# Altium footprint library Connector_JST.PcbLib: 558 footprints (part 23 of 35)
Each footprint in its own frame and in the unit in brackets; x right, y up, seen from the top. Pads: shape width x height; smd on the part's side, far side on the other; paste and mask are expansions set on the pad; w line width, h text height; cw(c..) or ccw(c..) is an arc to the next point about the centre after c.
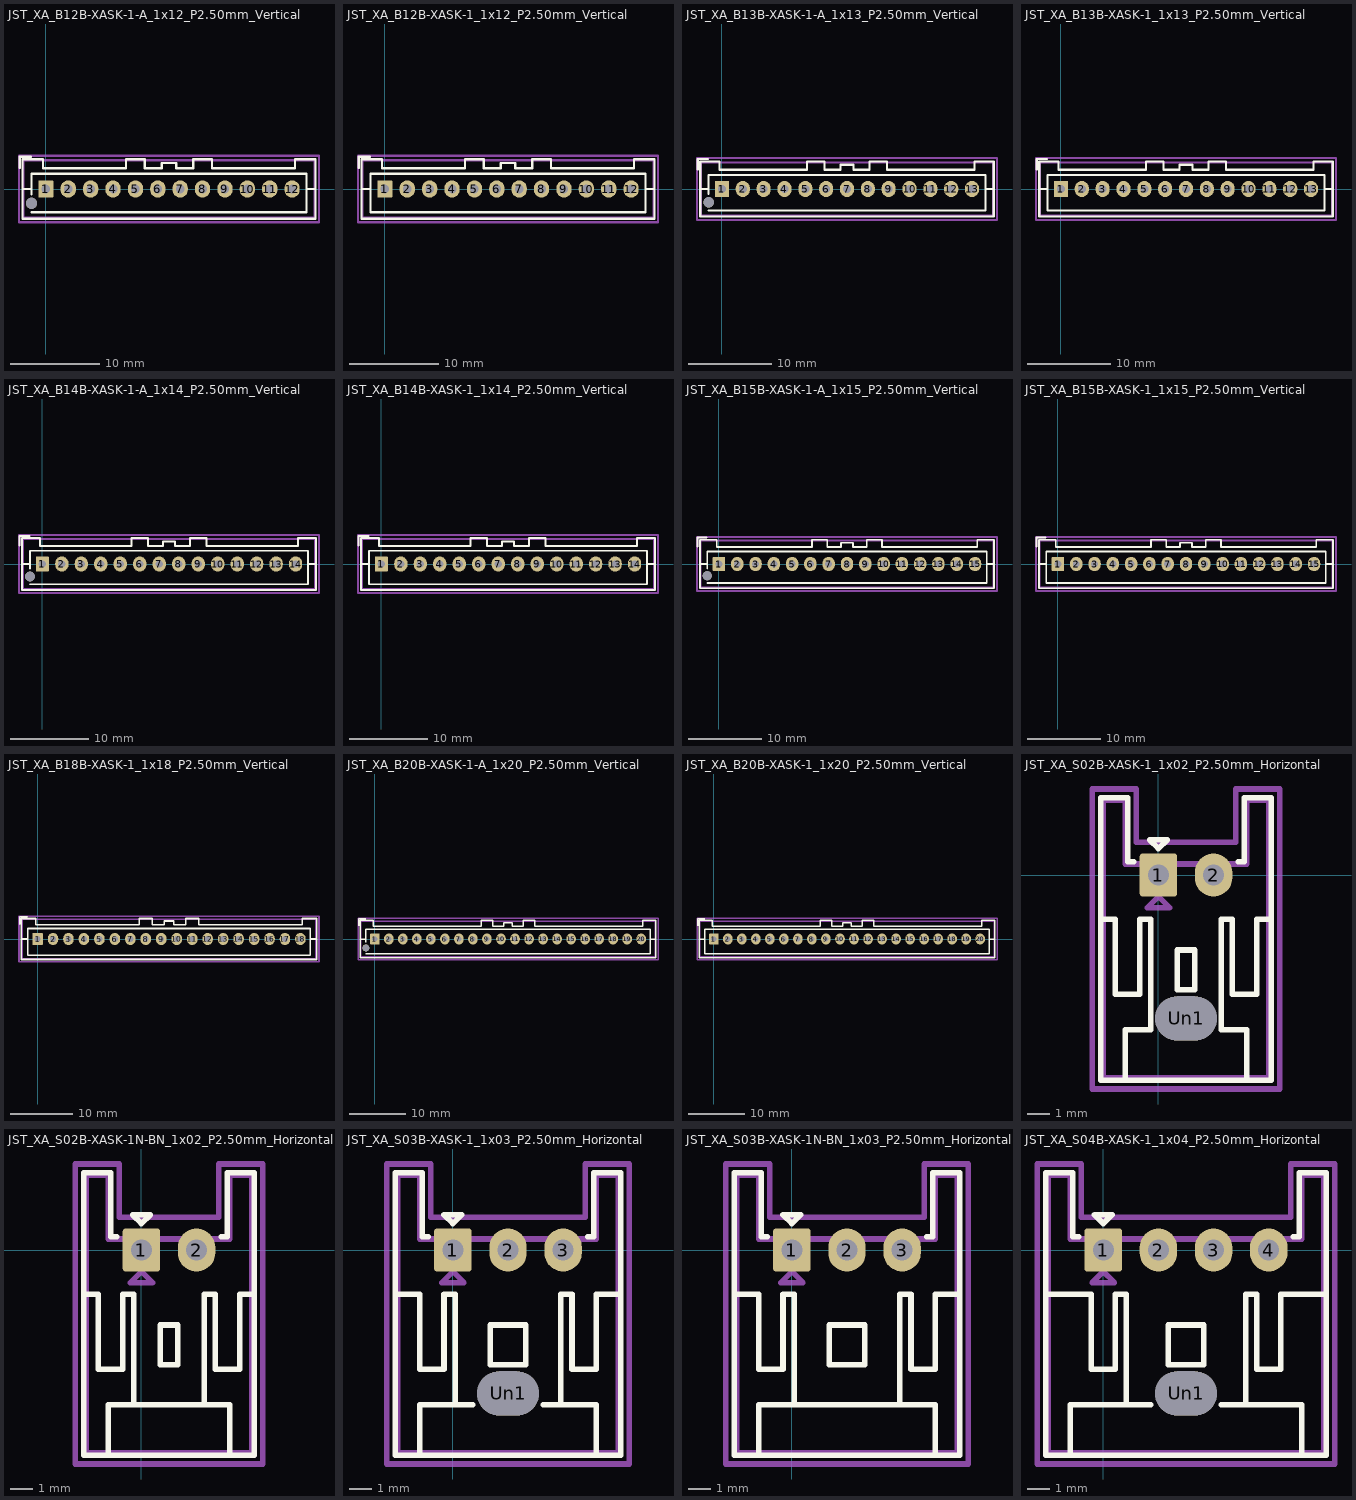
[diagram p22: the footprints below, top view; thin cyan lines are the x and y axes]

## JST_XA_B12B-XASK-1-A_1x12_P2.50mm_Vertical [mm] "JST_XA_B12B-XASK-1-A_1x12_P2.50mm_Vertical"
pads (13):
  rrect15% 1.7x1.95 hole 0.95: 1(0,0)
  rrect100% 1.7x1.95 hole 0.95: 2(2.5,0) 3(5,0) 4(7.5,0) 5(10,0) 6(12.5,0) 7(15,0) 8(17.5,0) 9(20,0) 10(22.5,0) 11(25,0) 12(27.5,0)
  round 1.25 hole 1.25: Un1(-1.6,-1.6)
F.SilkS:
  lines w0.254: -2.91,2.36 -2.91,3.61 -1.66,3.61 ; -2.61,0 -1.6,0 ; -1.6,-2.6 29.1,-2.6 29.1,1.7 -1.6,1.7 -1.6,-0.6 ; 29.1,0 30.11,0 ; -2.61,-3.31 -2.61,3.31 -0.31,3.31 -0.31,2.31 8.95,2.31 8.95,3.31 11.05,3.31 11.05,2.31 12.95,2.31 12.95,2.91 14.55,2.91 14.55,2.31 16.45,2.31 16.45,3.31 18.55,3.31 18.55,2.31 27.81,2.31 27.81,3.31 30.11,3.31 30.11,-3.31 -2.61,-3.31
Top Component Center:
  lines w0.127: -0.127,0 0.127,0 ; 0,-0.127 0,0.127
Top Assembly:
  lines w0.254: -2.91,2.36 -2.91,3.61 -1.66,3.61 ; -2.5,-3.2 -2.5,3.2 30,3.2 30,-3.2 -2.5,-3.2
Top Courtyard:
  lines w0.254: -3,-3.7 -3,3.7 30.5,3.7 30.5,-3.7 -3,-3.7
Top Designator:
  text ".Designator" at 9.778,-1.995 h1.52

## JST_XA_B12B-XASK-1_1x12_P2.50mm_Vertical [mm] "JST_XA_B12B-XASK-1_1x12_P2.50mm_Vertical"
pads (12):
  rrect15% 1.7x1.95 hole 0.95: 1(0,0)
  rrect100% 1.7x1.95 hole 0.95: 2(2.5,0) 3(5,0) 4(7.5,0) 5(10,0) 6(12.5,0) 7(15,0) 8(17.5,0) 9(20,0) 10(22.5,0) 11(25,0) 12(27.5,0)
F.SilkS:
  lines w0.254: -2.91,2.36 -2.91,3.61 -1.66,3.61 ; -2.61,0 -1.6,0 ; 29.1,0 30.11,0 ; -2.61,-3.31 -2.61,3.31 -0.31,3.31 -0.31,2.31 8.95,2.31 8.95,3.31 11.05,3.31 11.05,2.31 12.95,2.31 12.95,2.91 14.55,2.91 14.55,2.31 16.45,2.31 16.45,3.31 18.55,3.31 18.55,2.31 27.81,2.31 27.81,3.31 30.11,3.31 30.11,-3.31 -2.61,-3.31 ; -1.6,-2.6 -1.6,1.7 29.1,1.7 29.1,-2.6 -1.6,-2.6
Top Component Center:
  lines w0.127: -0.127,0 0.127,0 ; 0,-0.127 0,0.127
Top Assembly:
  lines w0.254: -2.91,2.36 -2.91,3.61 -1.66,3.61 ; -2.5,-3.2 -2.5,3.2 30,3.2 30,-3.2 -2.5,-3.2
Top Courtyard:
  lines w0.254: -3,-3.7 -3,3.7 30.5,3.7 30.5,-3.7 -3,-3.7
Top Designator:
  text ".Designator" at 10.159,-1.995 h1.52

## JST_XA_B13B-XASK-1-A_1x13_P2.50mm_Vertical [mm] "JST_XA_B13B-XASK-1-A_1x13_P2.50mm_Vertical"
pads (14):
  rrect15% 1.7x1.95 hole 0.95: 1(0,0)
  rrect100% 1.7x1.95 hole 0.95: 2(2.5,0) 3(5,0) 4(7.5,0) 5(10,0) 6(12.5,0) 7(15,0) 8(17.5,0) 9(20,0) 10(22.5,0) 11(25,0) 12(27.5,0) 13(30,0)
  round 1.25 hole 1.25: Un1(-1.6,-1.6)
F.SilkS:
  lines w0.254: -2.91,2.36 -2.91,3.61 -1.66,3.61 ; -2.61,0 -1.6,0 ; -1.6,-2.6 31.6,-2.6 31.6,1.7 -1.6,1.7 -1.6,-0.6 ; 31.6,0 32.61,0 ; -2.61,-3.31 -2.61,3.31 -0.31,3.31 -0.31,2.31 10.2,2.31 10.2,3.31 12.3,3.31 12.3,2.31 14.2,2.31 14.2,2.91 15.8,2.91 15.8,2.31 17.7,2.31 17.7,3.31 19.8,3.31 19.8,2.31 30.31,2.31 30.31,3.31 32.61,3.31 32.61,-3.31 -2.61,-3.31
Top Component Center:
  lines w0.127: -0.127,0 0.127,0 ; 0,-0.127 0,0.127
Top Assembly:
  lines w0.254: -2.91,2.36 -2.91,3.61 -1.66,3.61 ; -2.5,-3.2 -2.5,3.2 32.5,3.2 32.5,-3.2 -2.5,-3.2
Top Courtyard:
  lines w0.254: -3,-3.7 -3,3.7 33,3.7 33,-3.7 -3,-3.7
Top Designator:
  text ".Designator" at 12.572,-1.995 h1.52

## JST_XA_B13B-XASK-1_1x13_P2.50mm_Vertical [mm] "JST_XA_B13B-XASK-1_1x13_P2.50mm_Vertical"
pads (13):
  rrect15% 1.7x1.95 hole 0.95: 1(0,0)
  rrect100% 1.7x1.95 hole 0.95: 2(2.5,0) 3(5,0) 4(7.5,0) 5(10,0) 6(12.5,0) 7(15,0) 8(17.5,0) 9(20,0) 10(22.5,0) 11(25,0) 12(27.5,0) 13(30,0)
F.SilkS:
  lines w0.254: -2.91,2.36 -2.91,3.61 -1.66,3.61 ; -2.61,0 -1.6,0 ; 31.6,0 32.61,0 ; -2.61,-3.31 -2.61,3.31 -0.31,3.31 -0.31,2.31 10.2,2.31 10.2,3.31 12.3,3.31 12.3,2.31 14.2,2.31 14.2,2.91 15.8,2.91 15.8,2.31 17.7,2.31 17.7,3.31 19.8,3.31 19.8,2.31 30.31,2.31 30.31,3.31 32.61,3.31 32.61,-3.31 -2.61,-3.31 ; -1.6,-2.6 -1.6,1.7 31.6,1.7 31.6,-2.6 -1.6,-2.6
Top Component Center:
  lines w0.127: -0.127,0 0.127,0 ; 0,-0.127 0,0.127
Top Assembly:
  lines w0.254: -2.91,2.36 -2.91,3.61 -1.66,3.61 ; -2.5,-3.2 -2.5,3.2 32.5,3.2 32.5,-3.2 -2.5,-3.2
Top Courtyard:
  lines w0.254: -3,-3.7 -3,3.7 33,3.7 33,-3.7 -3,-3.7
Top Designator:
  text ".Designator" at 11.556,-2.122 h1.52

## JST_XA_B14B-XASK-1-A_1x14_P2.50mm_Vertical [mm] "JST_XA_B14B-XASK-1-A_1x14_P2.50mm_Vertical"
pads (15):
  rrect15% 1.7x1.95 hole 0.95: 1(0,0)
  rrect100% 1.7x1.95 hole 0.95: 2(2.5,0) 3(5,0) 4(7.5,0) 5(10,0) 6(12.5,0) 7(15,0) 8(17.5,0) 9(20,0) 10(22.5,0) 11(25,0) 12(27.5,0) 13(30,0) 14(32.5,0)
  round 1.25 hole 1.25: Un1(-1.6,-1.6)
F.SilkS:
  lines w0.254: -2.91,2.36 -2.91,3.61 -1.66,3.61 ; -2.61,0 -1.6,0 ; -1.6,-2.6 34.1,-2.6 34.1,1.7 -1.6,1.7 -1.6,-0.6 ; 34.1,0 35.11,0 ; -2.61,-3.31 -2.61,3.31 -0.31,3.31 -0.31,2.31 11.45,2.31 11.45,3.31 13.55,3.31 13.55,2.31 15.45,2.31 15.45,2.91 17.05,2.91 17.05,2.31 18.95,2.31 18.95,3.31 21.05,3.31 21.05,2.31 32.81,2.31 32.81,3.31 35.11,3.31 35.11,-3.31 -2.61,-3.31
Top Component Center:
  lines w0.127: -0.127,0 0.127,0 ; 0,-0.127 0,0.127
Top Assembly:
  lines w0.254: -2.91,2.36 -2.91,3.61 -1.66,3.61 ; -2.5,-3.2 -2.5,3.2 35,3.2 35,-3.2 -2.5,-3.2
Top Courtyard:
  lines w0.254: -3,-3.7 -3,3.7 35.5,3.7 35.5,-3.7 -3,-3.7
Top Designator:
  text ".Designator" at 13.08,-1.868 h1.52

## JST_XA_B14B-XASK-1_1x14_P2.50mm_Vertical [mm] "JST_XA_B14B-XASK-1_1x14_P2.50mm_Vertical"
pads (14):
  rrect15% 1.7x1.95 hole 0.95: 1(0,0)
  rrect100% 1.7x1.95 hole 0.95: 2(2.5,0) 3(5,0) 4(7.5,0) 5(10,0) 6(12.5,0) 7(15,0) 8(17.5,0) 9(20,0) 10(22.5,0) 11(25,0) 12(27.5,0) 13(30,0) 14(32.5,0)
F.SilkS:
  lines w0.254: -2.91,2.36 -2.91,3.61 -1.66,3.61 ; -2.61,0 -1.6,0 ; 34.1,0 35.11,0 ; -2.61,-3.31 35.11,-3.31 35.11,3.31 32.81,3.31 32.81,2.31 21.05,2.31 21.05,3.31 18.95,3.31 18.95,2.31 17.05,2.31 17.05,2.91 15.45,2.91 15.45,2.31 13.55,2.31 13.55,3.31 11.45,3.31 11.45,2.31 -0.31,2.31 -0.31,3.31 -2.61,3.31 -2.61,-3.31 ; -1.6,-2.6 34.1,-2.6 34.1,1.7 -1.6,1.7 -1.6,-2.6
Top Component Center:
  lines w0.127: -0.127,0 0.127,0 ; 0,-0.127 0,0.127
Top Assembly:
  lines w0.254: -2.91,2.36 -2.91,3.61 -1.66,3.61 ; -2.5,-3.2 35,-3.2 35,3.2 -2.5,3.2 -2.5,-3.2
Top Courtyard:
  lines w0.254: -3,-3.7 35.5,-3.7 35.5,3.7 -3,3.7 -3,-3.7
Top Designator:
  text ".Designator" at 12.699,-1.995 h1.52

## JST_XA_B15B-XASK-1-A_1x15_P2.50mm_Vertical [mm] "JST_XA_B15B-XASK-1-A_1x15_P2.50mm_Vertical"
pads (16):
  rrect15% 1.7x1.95 hole 0.95: 1(0,0)
  rrect100% 1.7x1.95 hole 0.95: 2(2.5,0) 3(5,0) 4(7.5,0) 5(10,0) 6(12.5,0) 7(15,0) 8(17.5,0) 9(20,0) 10(22.5,0) 11(25,0) 12(27.5,0) 13(30,0) 14(32.5,0) 15(35,0)
  round 1.25 hole 1.25: Un1(-1.6,-1.6)
F.SilkS:
  lines w0.254: -2.91,2.36 -2.91,3.61 -1.66,3.61 ; -2.61,0 -1.6,0 ; -1.6,-2.6 36.6,-2.6 36.6,1.7 -1.6,1.7 -1.6,-0.6 ; 36.6,0 37.61,0 ; -2.61,-3.31 -2.61,3.31 -0.31,3.31 -0.31,2.31 12.7,2.31 12.7,3.31 14.8,3.31 14.8,2.31 16.7,2.31 16.7,2.91 18.3,2.91 18.3,2.31 20.2,2.31 20.2,3.31 22.3,3.31 22.3,2.31 35.31,2.31 35.31,3.31 37.61,3.31 37.61,-3.31 -2.61,-3.31
Top Component Center:
  lines w0.127: -0.127,0 0.127,0 ; 0,-0.127 0,0.127
Top Assembly:
  lines w0.254: -2.91,2.36 -2.91,3.61 -1.66,3.61 ; -2.5,-3.2 -2.5,3.2 37.5,3.2 37.5,-3.2 -2.5,-3.2
Top Courtyard:
  lines w0.254: -3,-3.7 -3,3.7 38,3.7 38,-3.7 -3,-3.7
Top Designator:
  text ".Designator" at 13.842,-1.995 h1.52

## JST_XA_B15B-XASK-1_1x15_P2.50mm_Vertical [mm] "JST_XA_B15B-XASK-1_1x15_P2.50mm_Vertical"
pads (15):
  rrect15% 1.7x1.95 hole 0.95: 1(0,0)
  rrect100% 1.7x1.95 hole 0.95: 2(2.5,0) 3(5,0) 4(7.5,0) 5(10,0) 6(12.5,0) 7(15,0) 8(17.5,0) 9(20,0) 10(22.5,0) 11(25,0) 12(27.5,0) 13(30,0) 14(32.5,0) 15(35,0)
F.SilkS:
  lines w0.254: -2.91,2.36 -2.91,3.61 -1.66,3.61 ; -2.61,0 -1.6,0 ; 36.6,0 37.61,0 ; -2.61,-3.31 37.61,-3.31 37.61,3.31 35.31,3.31 35.31,2.31 22.3,2.31 22.3,3.31 20.2,3.31 20.2,2.31 18.3,2.31 18.3,2.91 16.7,2.91 16.7,2.31 14.8,2.31 14.8,3.31 12.7,3.31 12.7,2.31 -0.31,2.31 -0.31,3.31 -2.61,3.31 -2.61,-3.31 ; -1.6,-2.6 36.6,-2.6 36.6,1.7 -1.6,1.7 -1.6,-2.6
Top Component Center:
  lines w0.127: -0.127,0 0.127,0 ; 0,-0.127 0,0.127
Top Assembly:
  lines w0.254: -2.91,2.36 -2.91,3.61 -1.66,3.61 ; -2.5,-3.2 37.5,-3.2 37.5,3.2 -2.5,3.2 -2.5,-3.2
Top Courtyard:
  lines w0.254: -3,-3.7 38,-3.7 38,3.7 -3,3.7 -3,-3.7
Top Designator:
  text ".Designator" at 14.223,-1.995 h1.52

## JST_XA_B18B-XASK-1_1x18_P2.50mm_Vertical [mm] "JST_XA_B18B-XASK-1_1x18_P2.50mm_Vertical"
pads (18):
  rrect15% 1.7x1.95 hole 0.95: 1(0,0)
  rrect100% 1.7x1.95 hole 0.95: 2(2.5,0) 3(5,0) 4(7.5,0) 5(10,0) 6(12.5,0) 7(15,0) 8(17.5,0) 9(20,0) 10(22.5,0) 11(25,0) 12(27.5,0) 13(30,0) 14(32.5,0) 15(35,0) 16(37.5,0) 17(40,0) 18(42.5,0)
F.SilkS:
  lines w0.254: -2.91,2.36 -2.91,3.61 -1.66,3.61 ; -2.61,0 -1.6,0 ; 44.1,0 45.11,0 ; -2.61,-3.31 -2.61,3.31 -0.31,3.31 -0.31,2.31 16.45,2.31 16.45,3.31 18.55,3.31 18.55,2.31 20.45,2.31 20.45,2.91 22.05,2.91 22.05,2.31 23.95,2.31 23.95,3.31 26.05,3.31 26.05,2.31 42.81,2.31 42.81,3.31 45.11,3.31 45.11,-3.31 -2.61,-3.31 ; -1.6,-2.6 -1.6,1.7 44.1,1.7 44.1,-2.6 -1.6,-2.6
Top Component Center:
  lines w0.127: -0.127,0 0.127,0 ; 0,-0.127 0,0.127
Top Assembly:
  lines w0.254: -2.91,2.36 -2.91,3.61 -1.66,3.61 ; -2.5,-3.2 -2.5,3.2 45,3.2 45,-3.2 -2.5,-3.2
Top Courtyard:
  lines w0.254: -3,-3.7 -3,3.7 45.5,3.7 45.5,-3.7 -3,-3.7
Top Designator:
  text ".Designator" at 17.779,-1.868 h1.52

## JST_XA_B20B-XASK-1-A_1x20_P2.50mm_Vertical [mm] "JST_XA_B20B-XASK-1-A_1x20_P2.50mm_Vertical"
pads (21):
  rrect15% 1.7x1.95 hole 0.95: 1(0,0)
  rrect100% 1.7x1.95 hole 0.95: 2(2.5,0) 3(5,0) 4(7.5,0) 5(10,0) 6(12.5,0) 7(15,0) 8(17.5,0) 9(20,0) 10(22.5,0) 11(25,0) 12(27.5,0) 13(30,0) 14(32.5,0) 15(35,0) 16(37.5,0) 17(40,0) 18(42.5,0) 19(45,0) 20(47.5,0)
  round 1.25 hole 1.25: Un1(-1.6,-1.6)
F.SilkS:
  lines w0.254: -2.91,2.36 -2.91,3.61 -1.66,3.61 ; -2.61,0 -1.6,0 ; -1.6,-2.6 49.1,-2.6 49.1,1.7 -1.6,1.7 -1.6,-0.6 ; 49.1,0 50.11,0 ; -2.61,-3.31 50.11,-3.31 50.11,3.31 47.81,3.31 47.81,2.31 28.55,2.31 28.55,3.31 26.45,3.31 26.45,2.31 24.55,2.31 24.55,2.91 22.95,2.91 22.95,2.31 21.05,2.31 21.05,3.31 18.95,3.31 18.95,2.31 -0.31,2.31 -0.31,3.31 -2.61,3.31 -2.61,-3.31
Top Component Center:
  lines w0.127: -0.127,0 0.127,0 ; 0,-0.127 0,0.127
Top Assembly:
  lines w0.254: -2.91,2.36 -2.91,3.61 -1.66,3.61 ; -2.5,-3.2 50,-3.2 50,3.2 -2.5,3.2 -2.5,-3.2
Top Courtyard:
  lines w0.254: -3,-3.7 50.5,-3.7 50.5,3.7 -3,3.7 -3,-3.7
Top Designator:
  text ".Designator" at 20.319,-1.995 h1.52

## JST_XA_B20B-XASK-1_1x20_P2.50mm_Vertical [mm] "JST_XA_B20B-XASK-1_1x20_P2.50mm_Vertical"
pads (20):
  rrect15% 1.7x1.95 hole 0.95: 1(0,0)
  rrect100% 1.7x1.95 hole 0.95: 2(2.5,0) 3(5,0) 4(7.5,0) 5(10,0) 6(12.5,0) 7(15,0) 8(17.5,0) 9(20,0) 10(22.5,0) 11(25,0) 12(27.5,0) 13(30,0) 14(32.5,0) 15(35,0) 16(37.5,0) 17(40,0) 18(42.5,0) 19(45,0) 20(47.5,0)
F.SilkS:
  lines w0.254: -2.91,2.36 -2.91,3.61 -1.66,3.61 ; -2.61,0 -1.6,0 ; 49.1,0 50.11,0 ; -2.61,-3.31 50.11,-3.31 50.11,3.31 47.81,3.31 47.81,2.31 28.55,2.31 28.55,3.31 26.45,3.31 26.45,2.31 24.55,2.31 24.55,2.91 22.95,2.91 22.95,2.31 21.05,2.31 21.05,3.31 18.95,3.31 18.95,2.31 -0.31,2.31 -0.31,3.31 -2.61,3.31 -2.61,-3.31 ; -1.6,-2.6 49.1,-2.6 49.1,1.7 -1.6,1.7 -1.6,-2.6
Top Component Center:
  lines w0.127: -0.127,0 0.127,0 ; 0,-0.127 0,0.127
Top Assembly:
  lines w0.254: -2.91,2.36 -2.91,3.61 -1.66,3.61 ; -2.5,-3.2 50,-3.2 50,3.2 -2.5,3.2 -2.5,-3.2
Top Courtyard:
  lines w0.254: -3,-3.7 50.5,-3.7 50.5,3.7 -3,3.7 -3,-3.7
Top Designator:
  text ".Designator" at 20.446,-1.995 h1.52

## JST_XA_S02B-XASK-1_1x02_P2.50mm_Horizontal [mm] "JST_XA_S02B-XASK-1_1x02_P2.50mm_Horizontal"
pads (3):
  rrect15% 1.7x1.95 hole 0.95: 1(0,0)
  rrect100% 1.7x1.95 hole 0.95: 2(2.5,0)
  rrect100% 2.8x2 hole 2 slot 2.8 at 0 deg: Un1(1.25,-6.5)
F.SilkS:
  lines w0.254: -2.61,-2 -1.95,-2 -1.95,-5.41 -0.85,-5.41 -0.85,-2 -0.35,-2 -0.35,-7.01 -1.5,-7.01 -1.5,-9.31 ; -1.11,0.61 -1.39,0.61 -1.39,3.51 -2.61,3.51 -2.61,-9.31 5.11,-9.31 5.11,3.51 3.89,3.51 3.89,0.61 3.61,0.61 ; 4,-9.31 4,-7.01 2.85,-7.01 2.85,-2 3.35,-2 3.35,-5.41 4.45,-5.41 4.45,-2 5.11,-2 ; -0.4,1.6 0,1.2 0.4,1.6 -0.4,1.6 ; 0.85,-5.2 1.65,-5.2 1.65,-3.4 0.85,-3.4 0.85,-5.2
Top Component Center:
  lines w0.127: -0.127,0 0.127,0 ; 0,-0.127 0,0.127
Top Assembly:
  lines w0.254: -2.5,-9.2 5,-9.2 5,3.4 4,3.4 4,0.5 -1.5,0.5 -1.5,3.4 -2.5,3.4 -2.5,-9.2 ; -0.5,-1.475 0,-0.975 0.5,-1.475 -0.5,-1.475
Top Courtyard:
  lines w0.254: -3,-9.7 5.5,-9.7 5.5,3.9 3.5,3.9 3.5,1.48 -1,1.48 -1,3.9 -3,3.9 -3,-9.7
Top Designator:
  text ".Designator" at -2.16,-1.995 h1.52

## JST_XA_S02B-XASK-1N-BN_1x02_P2.50mm_Horizontal [mm] "JST_XA_S02B-XASK-1N-BN_1x02_P2.50mm_Horizontal"
pads (2):
  rrect15% 1.7x1.95 hole 0.95: 1(0,0)
  rrect100% 1.7x1.95 hole 0.95: 2(2.5,0)
F.SilkS:
  lines w0.254: -2.61,-2 -1.95,-2 -1.95,-5.41 -0.85,-5.41 -0.85,-2 -0.35,-2 -0.35,-7.01 ; -1.5,-9.31 -1.5,-7.01 4,-7.01 4,-9.31 ; -1.11,0.61 -1.39,0.61 -1.39,3.51 -2.61,3.51 -2.61,-9.31 5.11,-9.31 5.11,3.51 3.89,3.51 3.89,0.61 3.61,0.61 ; 2.85,-7.01 2.85,-2 3.35,-2 3.35,-5.41 4.45,-5.41 4.45,-2 5.11,-2 ; -0.4,1.6 0,1.2 0.4,1.6 -0.4,1.6 ; 0.85,-5.2 1.65,-5.2 1.65,-3.4 0.85,-3.4 0.85,-5.2
Top Component Center:
  lines w0.127: -0.127,0 0.127,0 ; 0,-0.127 0,0.127
Top Assembly:
  lines w0.254: -2.5,-9.2 5,-9.2 5,3.4 4,3.4 4,0.5 -1.5,0.5 -1.5,3.4 -2.5,3.4 -2.5,-9.2 ; -0.5,-1.475 0,-0.975 0.5,-1.475 -0.5,-1.475
Top Courtyard:
  lines w0.254: -3,-9.7 5.5,-9.7 5.5,3.9 3.5,3.9 3.5,1.48 -1,1.48 -1,3.9 -3,3.9 -3,-9.7
Top Designator:
  text ".Designator" at -2.033,-1.868 h1.52

## JST_XA_S03B-XASK-1_1x03_P2.50mm_Horizontal [mm] "JST_XA_S03B-XASK-1_1x03_P2.50mm_Horizontal"
pads (4):
  rrect15% 1.7x1.95 hole 0.95: 1(0,0)
  rrect100% 1.7x1.95 hole 0.95: 2(2.5,0) 3(5,0)
  rrect100% 2.8x2 hole 2 slot 2.8 at 0 deg: Un1(2.5,-6.5)
F.SilkS:
  lines w0.254: -2.61,-2 -1.5,-2 -1.5,-5.41 -0.4,-5.41 -0.4,-2 0.1,-2 0.1,-7.01 ; -1.5,-9.31 -1.5,-7.01 0.9,-7.01 ; -1.11,0.61 -1.39,0.61 -1.39,3.51 -2.61,3.51 -2.61,-9.31 7.61,-9.31 7.61,3.51 6.39,3.51 6.39,0.61 6.11,0.61 ; 4.1,-7.01 6.5,-7.01 6.5,-9.31 ; 4.9,-7.01 4.9,-2 5.4,-2 5.4,-5.41 6.5,-5.41 6.5,-2 7.61,-2 ; -0.4,1.6 0,1.2 0.4,1.6 -0.4,1.6 ; 1.7,-5.2 3.3,-5.2 3.3,-3.4 1.7,-3.4 1.7,-5.2
Top Component Center:
  lines w0.127: -0.127,0 0.127,0 ; 0,-0.127 0,0.127
Top Assembly:
  lines w0.254: -2.5,-9.2 7.5,-9.2 7.5,3.4 6.5,3.4 6.5,0.5 -1.5,0.5 -1.5,3.4 -2.5,3.4 -2.5,-9.2 ; -0.5,-1.475 0,-0.975 0.5,-1.475 -0.5,-1.475
Top Courtyard:
  lines w0.254: -3,-9.7 8,-9.7 8,3.9 6,3.9 6,1.48 -1,1.48 -1,3.9 -3,3.9 -3,-9.7
Top Designator:
  text ".Designator" at -0.763,-1.995 h1.52

## JST_XA_S03B-XASK-1N-BN_1x03_P2.50mm_Horizontal [mm] "JST_XA_S03B-XASK-1N-BN_1x03_P2.50mm_Horizontal"
pads (3):
  rrect15% 1.7x1.95 hole 0.95: 1(0,0)
  rrect100% 1.7x1.95 hole 0.95: 2(2.5,0) 3(5,0)
F.SilkS:
  lines w0.254: -2.61,-2 -1.5,-2 -1.5,-5.41 -0.4,-5.41 -0.4,-2 0.1,-2 0.1,-7.01 ; -1.5,-9.31 -1.5,-7.01 6.5,-7.01 6.5,-9.31 ; -1.11,0.61 -1.39,0.61 -1.39,3.51 -2.61,3.51 -2.61,-9.31 7.61,-9.31 7.61,3.51 6.39,3.51 6.39,0.61 6.11,0.61 ; 4.9,-7.01 4.9,-2 5.4,-2 5.4,-5.41 6.5,-5.41 6.5,-2 7.61,-2 ; -0.4,1.6 0.4,1.6 0,1.2 -0.4,1.6 ; 1.7,-5.2 1.7,-3.4 3.3,-3.4 3.3,-5.2 1.7,-5.2
Top Component Center:
  lines w0.127: -0.127,0 0.127,0 ; 0,-0.127 0,0.127
Top Assembly:
  lines w0.254: -2.5,-9.2 -2.5,3.4 -1.5,3.4 -1.5,0.5 6.5,0.5 6.5,3.4 7.5,3.4 7.5,-9.2 -2.5,-9.2 ; -0.5,-1.475 0.5,-1.475 0,-0.975 -0.5,-1.475
Top Courtyard:
  lines w0.254: -3,-9.7 -3,3.9 -1,3.9 -1,1.48 6,1.48 6,3.9 8,3.9 8,-9.7 -3,-9.7
Top Designator:
  text ".Designator" at -0.89,-2.122 h1.52

## JST_XA_S04B-XASK-1_1x04_P2.50mm_Horizontal [mm] "JST_XA_S04B-XASK-1_1x04_P2.50mm_Horizontal"
pads (5):
  rrect15% 1.7x1.95 hole 0.95: 1(0,0)
  rrect100% 1.7x1.95 hole 0.95: 2(2.5,0) 3(5,0) 4(7.5,0)
  rrect100% 2.8x2 hole 2 slot 2.8 at 0 deg: Un1(3.75,-6.5)
F.SilkS:
  lines w0.254: -2.61,-2 -0.55,-2 -0.55,-5.41 0.55,-5.41 0.55,-2 1.05,-2 1.05,-7.01 ; -1.5,-9.31 -1.5,-7.01 2.15,-7.01 ; -1.11,0.61 -1.39,0.61 -1.39,3.51 -2.61,3.51 -2.61,-9.31 10.11,-9.31 10.11,3.51 8.89,3.51 8.89,0.61 8.61,0.61 ; 5.35,-7.01 9,-7.01 9,-9.31 ; 6.45,-7.01 6.45,-2 6.95,-2 6.95,-5.41 8.05,-5.41 8.05,-2 10.11,-2 ; -0.4,1.6 0,1.2 0.4,1.6 -0.4,1.6 ; 2.95,-5.2 4.55,-5.2 4.55,-3.4 2.95,-3.4 2.95,-5.2
Top Component Center:
  lines w0.127: -0.127,0 0.127,0 ; 0,-0.127 0,0.127
Top Assembly:
  lines w0.254: -2.5,-9.2 10,-9.2 10,3.4 9,3.4 9,0.5 -1.5,0.5 -1.5,3.4 -2.5,3.4 -2.5,-9.2 ; -0.5,-1.475 0,-0.975 0.5,-1.475 -0.5,-1.475
Top Courtyard:
  lines w0.254: -3,-9.7 10.5,-9.7 10.5,3.9 8.5,3.9 8.5,1.48 -1,1.48 -1,3.9 -3,3.9 -3,-9.7
Top Designator:
  text ".Designator" at 0.634,-1.995 h1.52